# Altium footprint library RES-CERAMICA-10W.PcbLib: 1 footprints
Each footprint in its own frame and in the unit in brackets; x right, y up, seen from the top. Pads: shape width x height; smd on the part's side, far side on the other; paste and mask are expansions set on the pad; w line width, h text height; cw(c..) or ccw(c..) is an arc to the next point about the centre after c.
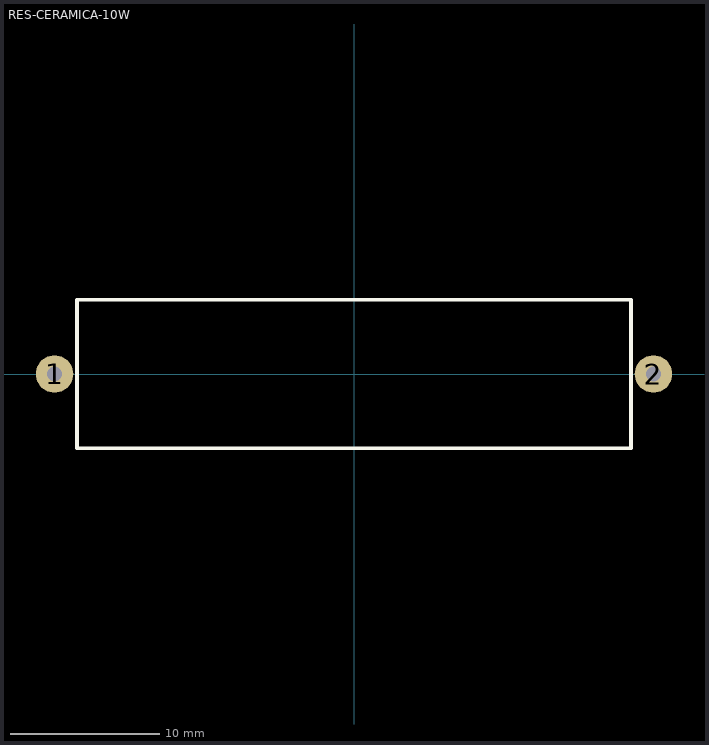
[diagram p0: the footprint, top view; thin cyan lines are the x and y axes]

## RES-CERAMICA-10W [mm] "Resistenci ceramica 10W"
pads (2):
  round 2.5 hole 1: 1(-20,0) 2(20,0)
Top Overlay:
  lines w0.254: -18.5,-4.953 -18.5,4.953 18.5,4.953 18.5,-4.953 -18.5,-4.953
3D body "AXIAL-POWER-10W.stp": height 9.5, standoff -6, extent -20.4,-4.75 20.4,4.75